# Altium integrated library vadimatorik_lib.IntLib: 33 symbols
Pins are listed as number, name and electrical type; pins without a type are passive.

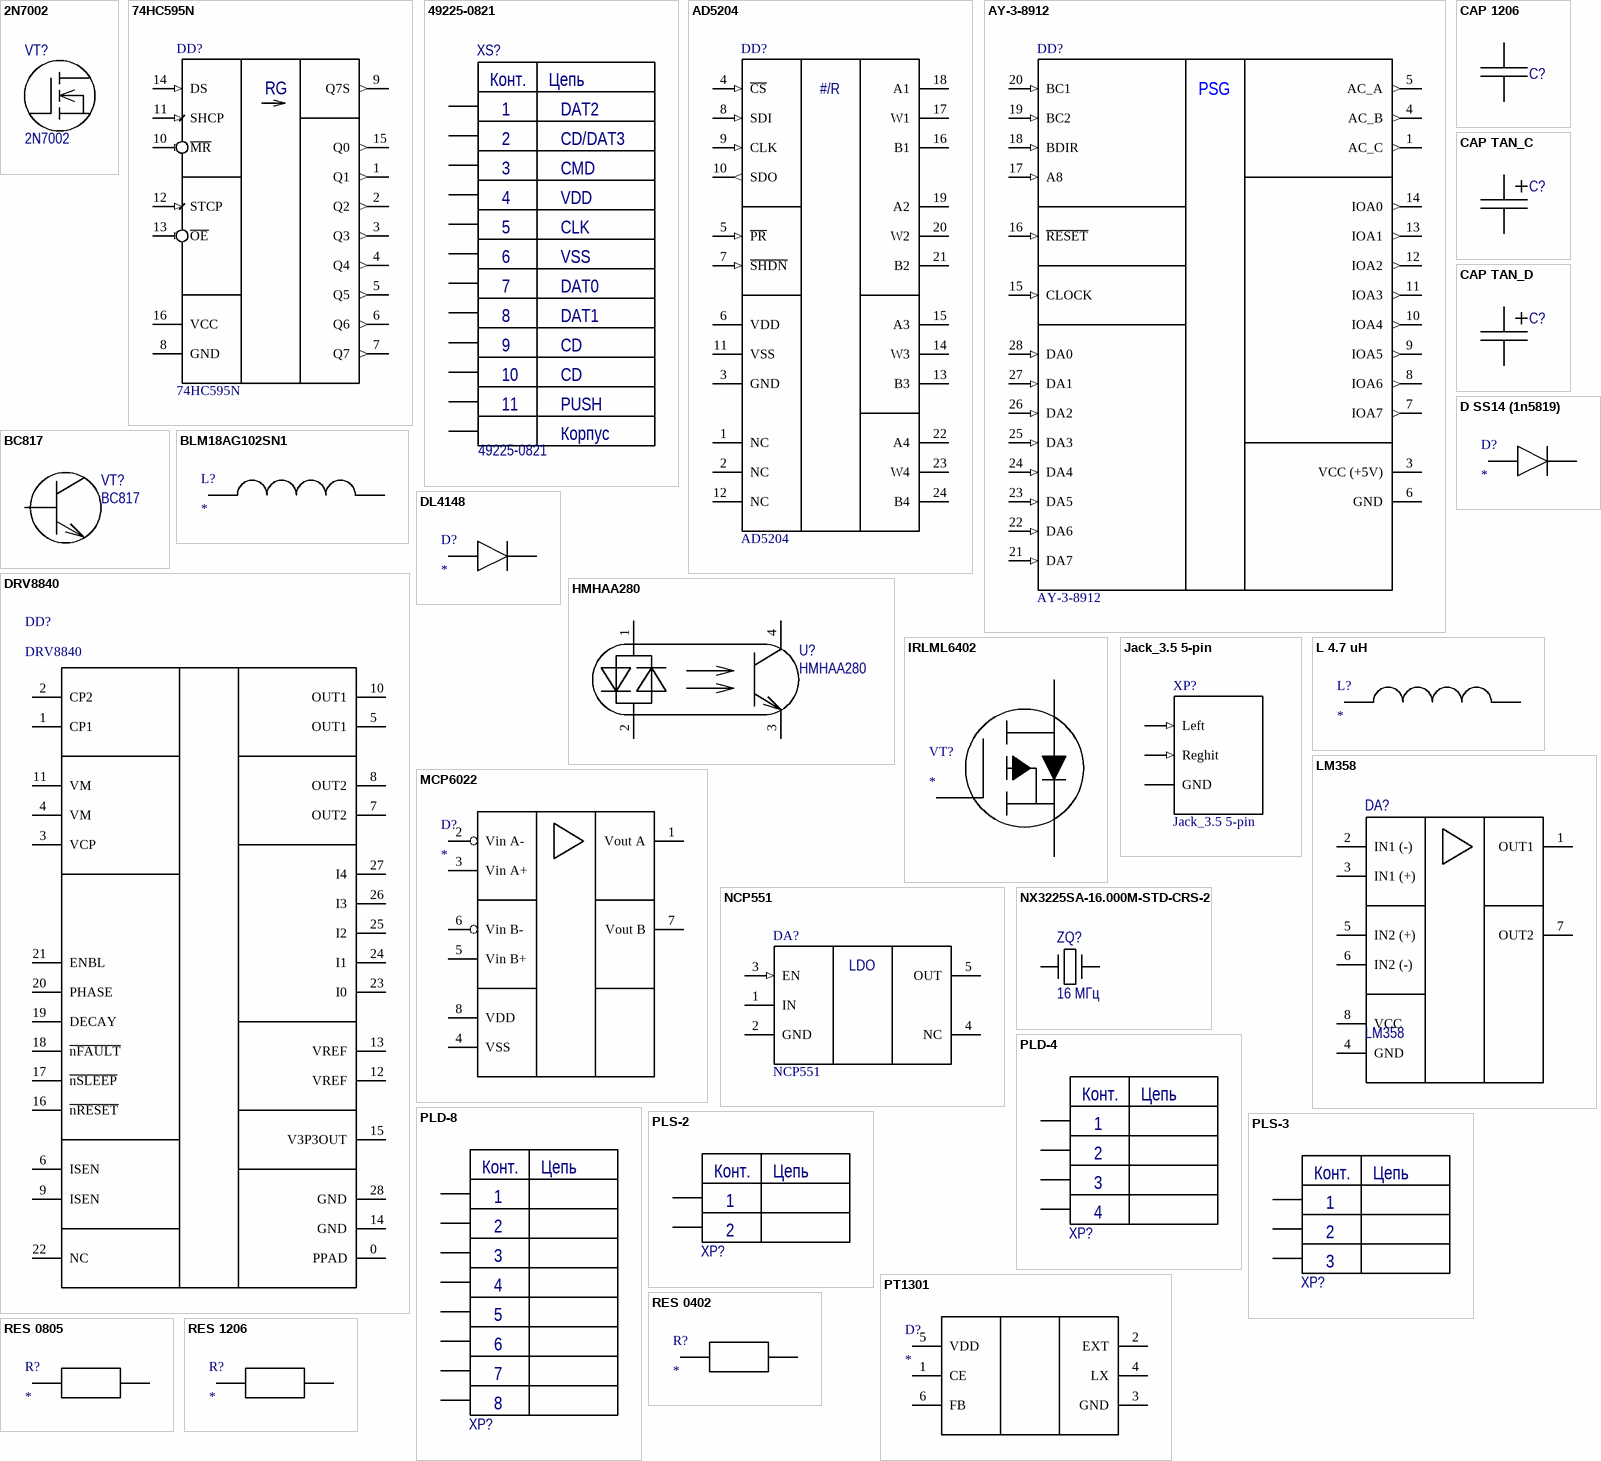
[diagram p0: symbols 2N7002 to RES 1206]

## 2N7002
designator VT?
60 V, 300 mA N-channel Trench MOSFET; Manufacturer: NXP; Structure: Индуцированный канал n-типа; Type: Транзистор полевой с изолированным затвором; Max gate-to-source voltage: 30 В; Drain-to-source breakdown voltage: 60 В; Gate threshold voltage: 2 В; Max continuous drain current: 300 мА; Max pulsed drain current: 1,2 А; Power dissitipation: 0,83 Вт; Input capacitance: 31 пФ; Output capacitance: 6,8 пФ; Turn-on time: 2,5 нс; Reverse transfer capacitance: 3,5 пФ; Turn-off time: 11 нс; Rds: 2,8 Ом; Temperature range: -65 ... 150 °C
footprint SOT-23
pins: 1 G, 2 S, 3 D

## 74HC595N
designator DD?
footprint SO16 (SOP, 16-Leads, Body 10,0x4,0mm (max), Pitch 1,27mm, IPC Medium Density)
pins: 1 Q1 (out), 2 Q2 (out), 3 Q3 (out), 4 Q4 (out), 5 Q5 (out), 6 Q6 (out), 7 Q7 (out), 8 GND (power), 9 Q7S (out), 10 ~{MR} (in), 11 SHCP (in), 12 STCP (in), 13 ~{OE} (in), 14 DS (in), 15 Q0 (out), 16 VCC (power)
text: RG

## 49225-0821
designator XS?
MOLEX MicroSD connector; Connector type: Разъем MicroSD на плату; Number of contacts: 11; Manufacturer: Molex; Type: Разъем
footprint MOLEX 49225-0821
pins: 0, 1, 2, 3, 4, 5, 6, 7, 8, 9, 10, 11
text: Конт.; Цепь; DAT2; CD/DAT3; CMD; VDD; CLK; VSS; DAT0; DAT1; CD; PUSH; Корпус

## AD5204
designator DD?
footprint SOIC-24 (R-24/SOL-24)
footprint TSSOP-24 (TSOP, 24-Leads, Body 7,80x4,40mm, Pitch 0,65mm, IPC Medium Density)
pins: 1 NC, 2 NC, 3 GND (power), 4 ~{CS} (in), 5 ~{PR} (in), 6 VDD (power), 7 ~{SHDN} (in), 8 SDI (in), 9 CLK (in), 10 SDO (out), 11 VSS (power), 12 NC, 13 B3, 14 W3, 15 A3, 16 B1, 17 W1, 18 A1, 19 A2, 20 W2, 21 B2, 22 A4, 23 W4, 24 B4
text: #/R

## AY-3-8912
designator DD?
footprint DIP-28
pins: 1 AC_C (out), 3 VCC (+5V) (power), 4 AC_B (out), 5 AC_A (out), 6 GND (power), 7 IOA7 (out), 8 IOA6 (out), 9 IOA5 (out), 10 IOA4 (out), 11 IOA3 (out), 12 IOA2 (out), 13 IOA1 (out), 14 IOA0 (out), 15 CLOCK (in), 16 ~{RESET} (in), 17 A8 (in), 18 BDIR (in), 19 BC2 (in), 20 BC1 (in), 21 DA7 (in), 22 DA6 (in), 23 DA5 (in), 24 DA4 (in), 25 DA3 (in), 26 DA2 (in), 27 DA1 (in), 28 DA0 (in)
text: PSG

## BC817
designator VT?
NPN general-purpose transistor; Manufacturer: NXP; Structure: n-p-n; Type: Транзистор биполярный; hFE: 160 ... 600; Max collector-emitter voltage: 45 В; Max collector-base voltage: 50 В; Max emitter-base voltage: 5 В; Max collector current: 0,5 А; Max collector peak current: 1 А; Power dissitipation: 0,25 Вт; fT: 100 МГц; Collector-emitter saturation voltage: 0,7 В; Base-emitter on voltage: 1,2 В; Specitication: ЭКБ ИП; Collector-base сapacitance: 3 пФ; Complement: BC807; Temperature range: -65 ... 150 °C
footprint SOT-23
pins: 1 B, 2 E, 3 C

## BLM18AG102SN1
designator L?
footprint FB 0603
pins: 1, 2

## CAP 1206
designator C?, comment /Укажите код маркировки/  (value not drawn)
SMD Capacitor 1206; Manufacturer: /Укажите компанию-производителя/; Tolerance: /Укажите допуск в процентах/; Temperature coefficient: /Формат: ±? ppm/°C/; Type: Конденсатор керамический; TC: /Укажите тип диэлектрика/; Size: 1206; Temperature range: /Формат: -? ... ? °C/
footprint C 1206
pins: 1, 2

## CAP TAN_C
designator C?, comment /Укажите код маркировки/  (value not drawn)
SMD Tantalium Capacitor C; Manufacturer: /Укажите компанию-производителя/; Tolerance: /Укажите допуск в процентах/; Type: Конденсатор танталовый; ESR: /Укажите значение ЭПС/; Size: C; Temperature range: /Формат: -? ... ? °C/
footprint C TAN_C
pins: 1, 2

## CAP TAN_D
designator C?, comment /Укажите код маркировки/  (value not drawn)
SMD Tantalium Capacitor D; Manufacturer: /Укажите компанию-производителя/; Tolerance: /Укажите допуск в процентах/; Type: Конденсатор танталовый; ESR: /Укажите значение ЭПС/; Rated voltage: 10 В; Value: 100 мк; Size: D; Temperature range: /Формат: -? ... ? °C/
footprint C TAN_D
pins: 1, 2

## D SS14 (1n5819)
designator D?
footprint SMA/DO-214AC
pins: A, C

## DL4148
designator D?
footprint DL-35
pins: A, C

## DRV8840
designator DD?
footprint HTSSOP-28
pins: 0 PPAD, 1 CP1, 2 CP2, 3 VCP, 4 VM, 5 OUT1, 6 ISEN, 7 OUT2, 8 OUT2, 9 ISEN, 10 OUT1, 11 VM, 12 VREF, 13 VREF, 14 GND, 15 V3P3OUT, 16 ~{nRESET}, 17 ~{nSLEEP}, 18 ~{nFAULT}, 19 DECAY, 20 PHASE, 21 ENBL, 22 NC, 23 I0, 24 I1, 25 I2, 26 I3, 27 I4, 28 GND

## HMHAA280
designator U?
AC Input Half Pitch Mini-Flat Package 4-pin Optocoupler; Manufacturer: Fairchild Semiconductor; Emitter forward voltage: 1,4 В; Emitter power dissitipation: 60 мВт; Isolation voltage: 3750 В; Detector collector current: 50 мА; Emitter reverse voltage: 6 В; Detector collector-emitter voltage: 80 В; Detector power dissitipation: 150 мВт; Temperature range: -55 ... 100 °C; Type: Оптрон; Emitter forward current: 50 мА
footprint MFP-4L
pins: 1 AC, 2 CA, 3 E, 4 C

## IRLML6402
designator VT?
footprint SOT-23
pins: 1 G, 2 S, 3 D

## Jack_3.5 5-pin
designator XP?
footprint JACK 3.5 SMD
footprint JACK 3.5  female
pins: G GND (power), L Left (in), R Reghit (in)

## L 4.7 uH
designator L?
Катушка индуктивности 4.7 мкГн корпус CD43 (индуктивность 4.7 uH).
footprint CD43 (Для катушки индуктивности.)
pins: 1, 2

## LM358
designator DA?
footprint SOP-8
pins: 1 OUT1, 2 IN1 (-), 3 IN1 (+), 4 GND, 5 IN2 (+), 6 IN2 (-), 7 OUT2, 8 VCC

## MCP6022
designator D?
footprint SOIC-8
pins: 1 Vout A, 2 Vin A-, 3 Vin A+, 4 VSS (power), 5 Vin B+, 6 Vin B-, 7 Vout B, 8 VDD (power)

## NCP551
designator DA?
footprint TSOP-5 (TSOP, 6-Leads, Body 3,00x1,50mm, Pitch 0,95mm, IPC Medium Density)
pins: 1 IN, 2 GND, 3 EN (in), 4 NC, 5 OUT
text: LDO

## NX3225SA-16.000M-STD-CRS-2
designator ZQ?  value 16 МГц  (hidden comment: NX3225SA-16.000M-STD-CRS-2)
QUARTZ CRYSTAL; Manufacturer: NDK; Load capacitance: 8 пФ; Frequency stability: ±15 ppm; Type: Кварцевый резонатор; Temperature range: -40 ... 125 °C
footprint NX3225SA
pins: 1 XI, 2 NC hidden, 3 XO, 4 NC hidden

## PLD-4
designator XP?  (value not drawn)
PLD connector; Manufacturer: NONAME; Connector type: Вилка на плату; Number of contacts: 4; Type: Разъем штыревой
footprint PLD-4
footprint PLD-4 1.27
pins: 1, 2, 3, 4
1 alternate drawing of the same symbol
text: Конт.; Цепь

## PLD-8
designator XP?  (value not drawn)
PLD connector; Manufacturer: NONAME; Connector type: Вилка на плату; Number of contacts: 8; Type: Разъем штыревой
footprint PLD-8
footprint PLD-8 1.27
pins: 1, 2, 3, 4, 5, 6, 7, 8
1 alternate drawing of the same symbol
text: Конт.; Цепь

## PLS-2
designator XP?  (value not drawn)
PLS connector; Manufacturer: NONAME; Connector type: Вилка на плату; Number of contacts: 2; Type: Разъем штыревой
footprint PLS-2
footprint PLS-2 1.27
pins: 1, 2
1 alternate drawing of the same symbol
text: Конт.; Цепь

## PLS-3
designator XP?  (value not drawn)
PLS connector; Manufacturer: NONAME; Connector type: Вилка на плату; Number of contacts: 3; Type: Разъем штыревой
footprint PLS-3
footprint PLS-3 1.27
pins: 1, 2, 3
1 alternate drawing of the same symbol
text: Конт.; Цепь

## PT1301
designator D?
DC-DC step-up (повышающий) PT1301 в корпусе SOT23-6.
footprint SOT-23-6
pins: 1 CE, 2 EXT, 3 GND, 4 LX, 5 VDD, 6 FB

## RES 0402
designator R?
footprint RES 0402
pins: 1, 2

## RES 0805
designator R?
footprint RES 0805
pins: 1, 2

## RES 1206
designator R?
footprint RES 1206
pins: 1, 2

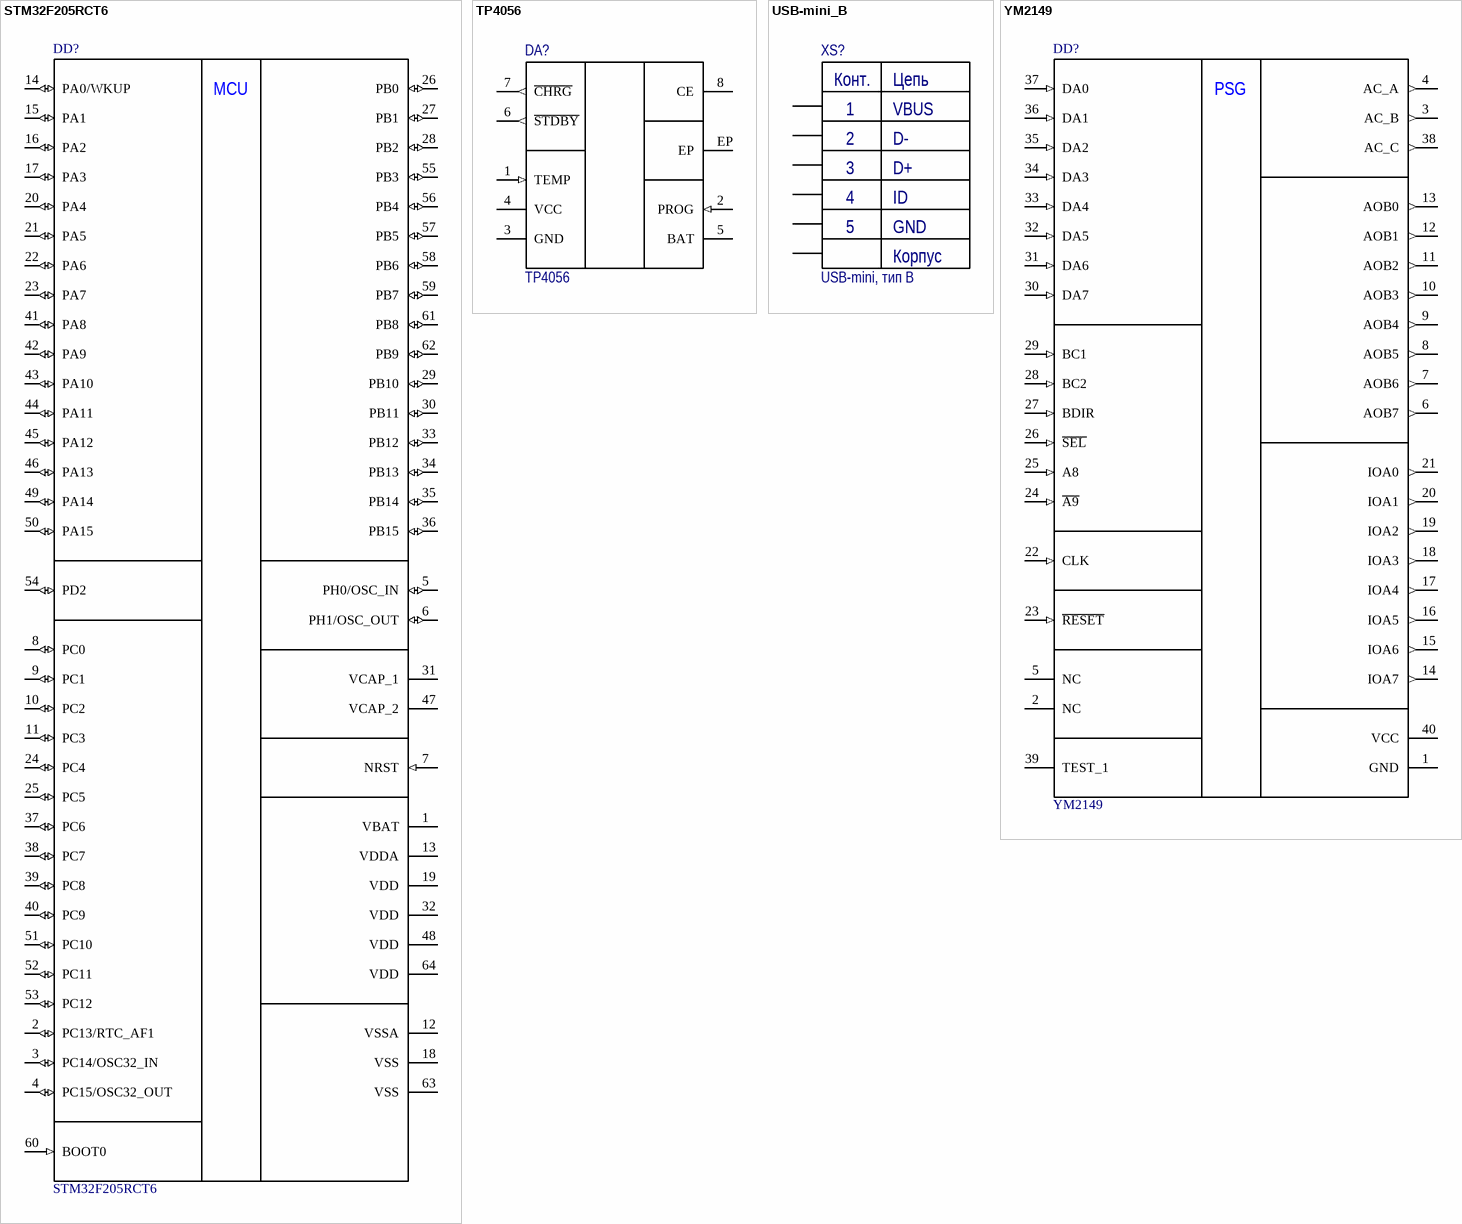
[diagram p1: symbols STM32F205RCT6 to YM2149]

## STM32F205RCT6
designator DD?
footprint LQFP64 (LQFP64 - 64-pin, 10 x 10 mm)
pins: 1 VBAT (power), 2 PC13/RTC_AF1 (io), 3 PC14/OSC32_IN (io), 4 PC15/OSC32_OUT (io), 5 PH0/OSC_IN (io), 6 PH1/OSC_OUT (io), 7 NRST (in), 8 PC0 (io), 9 PC1 (io), 10 PC2 (io), 11 PC3 (io), 12 VSSA (power), 13 VDDA (power), 14 PA0/WKUP (io), 15 PA1 (io), 16 PA2 (io), 17 PA3 (io), 18 VSS (power), 19 VDD (power), 20 PA4 (io), 21 PA5 (io), 22 PA6 (io), 23 PA7 (io), 24 PC4 (io), 25 PC5 (io), 26 PB0 (io), 27 PB1 (io), 28 PB2 (io), 29 PB10 (io), 30 PB11 (io), 31 VCAP_1 (power), 32 VDD (power), 33 PB12 (io), 34 PB13 (io), 35 PB14 (io), 36 PB15 (io), 37 PC6 (io), 38 PC7 (io), 39 PC8 (io), 40 PC9 (io), 41 PA8 (io), 42 PA9 (io), 43 PA10 (io), 44 PA11 (io), 45 PA12 (io), 46 PA13 (io), 47 VCAP_2 (power), 48 VDD (power), 49 PA14 (io), 50 PA15 (io), 51 PC10 (io), 52 PC11 (io), 53 PC12 (io), 54 PD2 (io), 55 PB3 (io), 56 PB4 (io), 57 PB5 (io), 58 PB6 (io), 59 PB7 (io), 60 BOOT0 (in), 61 PB8 (io), 62 PB9 (io), 63 VSS (power), 64 VDD (power)
text: MCU

## TP4056
designator DA?
footprint HSOP-8 (8-Lead Standard Small Outline Narrow Body Package)
pins: 1 TEMP (in), 2 PROG (in), 3 GND (power), 4 VCC (power), 5 BAT (power), 6 ~{STDBY} (out), 7 ~{CHRG} (out), 8 CE, EP

## USB-mini_B
designator XS?, comment USB-mini, тип B
USB-mini-B connector; Manufacturer: NONAME; Connector type: USB-mini, тип B на плату; Number of contacts: 5; Type: Разъем
footprint USB_mini_B
pins: 0, 1 VBUS, 2 D-, 3 D+, 4 CASE, 5 GND
text: Конт.; Цепь; ID; Корпус

## YM2149
designator DD?
footprint DIP-40
pins: 1 GND (power), 2 NC, 3 AC_B (out), 4 AC_A (out), 5 NC, 6 AOB7 (out), 7 AOB6 (out), 8 AOB5 (out), 9 AOB4 (out), 10 AOB3 (out), 11 AOB2 (out), 12 AOB1 (out), 13 AOB0 (out), 14 IOA7 (out), 15 IOA6 (out), 16 IOA5 (out), 17 IOA4 (out), 18 IOA3 (out), 19 IOA2 (out), 20 IOA1 (out), 21 IOA0 (out), 22 CLK (in), 23 ~{RESET} (in), 24 ~{A9} (in), 25 A8 (in), 26 ~{SEL} (in), 27 BDIR (in), 28 BC2 (in), 29 BC1 (in), 30 DA7 (in), 31 DA6 (in), 32 DA5 (in), 33 DA4 (in), 34 DA3 (in), 35 DA2 (in), 36 DA1 (in), 37 DA0 (in), 38 AC_C (out), 39 TEST_1, 40 VCC (power)
text: PSG